# Altium schematic symbol library AD8031.SchLib: 1 symbol
Pins are listed as number, name and electrical type; pins without a type are passive.

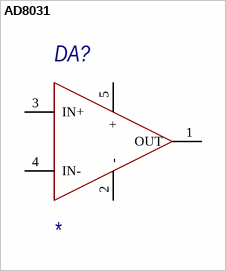
[diagram p0: symbol AD8031]

## AD8031
designator DA?
pins: 1 OUT, 2 -, 3 IN+, 4 IN-, 5 +